# EAGLE library part DASHBOARD_DISPLAYS_REX001602CYPP5N0 (library DASHBOARD_PARTS_LIB)
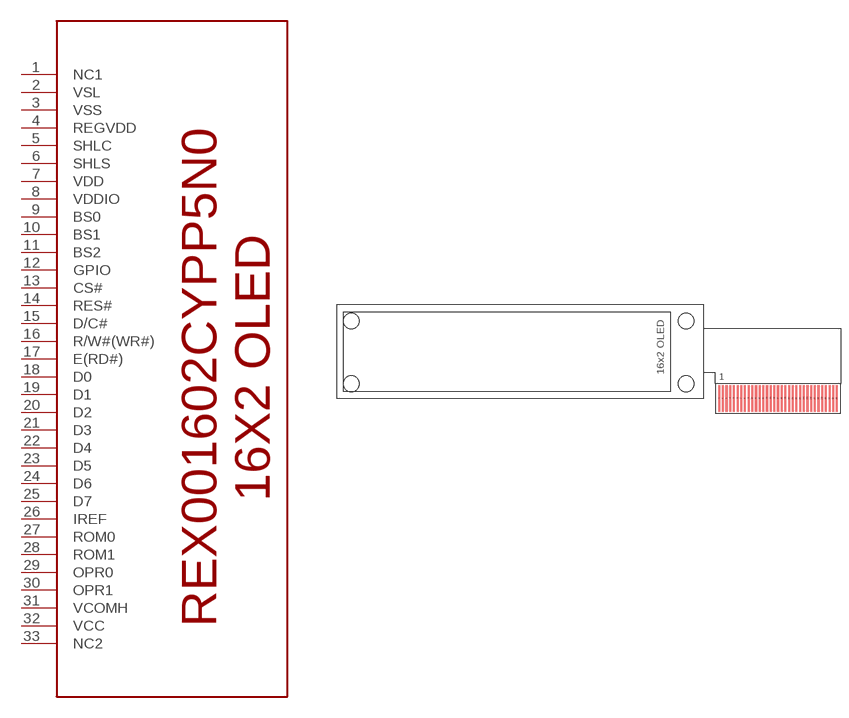
[diagram p2: symbol with the pads of DASHBOARD_DISPLAYS_33PIN_LCD16X2; footprint DASHBOARD_DISPLAYS_33PIN_LCD16X2]

Designator prefix DISPLAY

## DASHBOARD_DISPLAYS_REX001602CYPP5N0  [DASHBOARD_DISPLAYS_33PIN_LCD16X2]
1  NC1
2  VSL
3  VSS
4  REGVDD
5  SHLC
6  SHLS
7  VDD
8  VDDIO
9  BS0
10  BS1
11  BS2
12  GPIO
13  CS#
14  RES#
15  D/C#
16  R/W#(WR#)
17  E(RD#)
18  D0
19  D1
20  D2
21  D3
22  D4
23  D5
24  D6
25  D7
26  IREF
27  ROM0
28  ROM1
29  OPR0
30  OPR1
31  VCOMH
32  VCC
33  NC2

## Footprint DASHBOARD_DISPLAYS_33PIN_LCD16X2 (pad centres in mm)
smd 0.4 x 5: 1 72.8,0; 2 73.5,0; 3 74.2,0; 4 74.9,0; 5 75.6,0; 6 76.3,0; 7 77,0; 8 77.7,0; 9 78.4,0; 10 79.1,0; 11 79.8,0; 12 80.5,0; 13 81.2,0; 14 81.9,0; 15 82.6,0; 16 83.3,0; 17 84,0; 18 84.7,0; 19 85.4,0; 20 86.1,0; 21 86.8,0; 22 87.5,0; 23 88.2,0; 24 88.9,0; 25 89.6,0; 26 90.3,0; 27 91,0; 28 91.7,0; 29 92.4,0; 30 93.1,0; 31 93.8,0; 32 94.5,0; 33 95.2,0
hole 3 at 2.8,14.7
hole 3 at 2.8,2.8
hole 3 at 66.5,14.7
hole 3 at 66.5,2.8